# Altium schematic symbol library MU-RK3576J-MB.SCHLIB: 262 symbols (part 2 of 4)
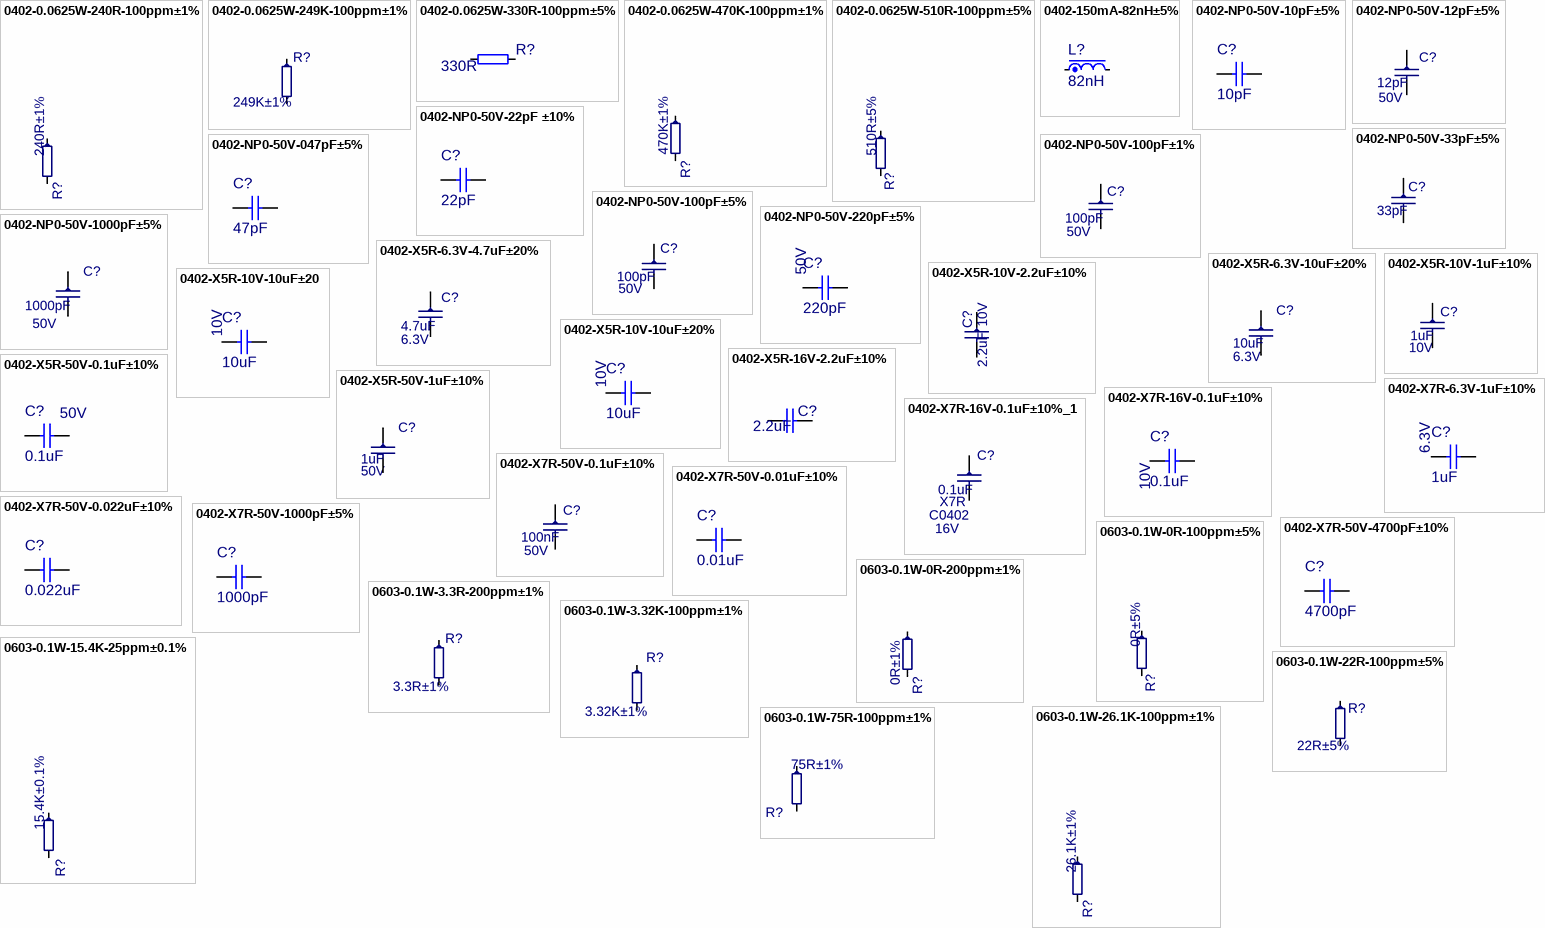
[diagram p14: symbols 0402-0.0625W-240R-100ppm±1% to 0603-0.1W-75R-100ppm±1%]

## 0402-NP0-50V-22pF ±10%
designator C?, comment 22pF
Part Number: 0402-NP0-50V-22pF ±10%; Manufacturer: Samsung; NameFromManufacturer: CL05C220JB51PNC; Place: S; Voltage: 50V; Tolerance: 10%; Check: False; Value: 22pF; Temperature: -55°C~125°C; ComponentLink2Description: Link to datasheet; ComponentLink1Description: DATASHEET; ComponentLink2URL: https://ru.mouser.com/datasheet/2/585/MLCC-1837944.pdf; ComponentLink1URL: Datasheets/capacitors/CL05C220JB51PNC_Spec.pdf; Last changed: 27.10.2022
footprint C0402 (Chip Capacitor, Body 1.0x0.5mm, IPC High Density)
footprint C0603 (Chip Capacitor, Body 1.6x0.8mm, IPC High Density)
footprint C0805 (Chip Capacitor, Body 2.0x1.3mm, IPC High Density)
footprint C1206 (Chip Capacitor, Body 3.2x1.6mm, IPC High Density)
footprint C1210 (Chip Capacitor, Body 3.2x2.5mm, IPC High Density)
footprint C1812 (Chip Capacitor, Body 4.5x3.2mm, IPC High Density)
pins: 1, 2
1 alternate drawing of the same symbol

## 0402-NP0-50V-33pF±5%
designator C?, comment 33pF
Part Number: 0402-NP0-50V-33pF±5%; Manufacturer: Yageo; NameFromManufacturer: CC0402FRNPO9BN330; Dielectric: NP0; Voltage: 50V; Place: *); Tolerance: 5%; Check: False; Case: C0402; Value: 33pF; Temperature: -55°C~125°C; ComponentLink2Description: Link to datasheet; ComponentLink1Description: DATASHEET; ComponentLink2URL: https://www.terraelectronica.ru/pdf/show?pdf_file=http%253A%252F%252Fwww.farnell.com%252Fdatasheets%252F2710587.pdf; ComponentLink1URL: Datasheets/capacitors/DOC012633270.pdf; Last changed: 27.10.2022
footprint C0402
pins: 1, 2
1 alternate drawing of the same symbol

## 0402-NP0-50V-047pF±5%
designator C?, comment 47pF
Part Number: 0402-NP0-50V-047pF±5%; Manufacturer: Yageo; NameFromManufacturer: CC0402JRNPO9BN470; Place: S; Voltage: 50V; Tolerance: 5%; Check: False; Value: 47pF; Temperature: -55°C~125°C; ComponentLink1Description: DATASHEET; ComponentLink1URL: https://www.terraelectronica.ru/product/567824; Datasheet: #https://www.yageo.com/upload/media/product/productsearch/datasheet/mlcc/UPY-GP_NP0_16V-to-50V_18.pdf#; Last changed: 30.08.2022
footprint C0402 (Chip Capacitor, Body 1.0x0.5mm, IPC High Density)
footprint C0603 (Chip Capacitor, Body 1.6x0.8mm, IPC High Density)
footprint C0805 (Chip Capacitor, Body 2.0x1.3mm, IPC High Density)
footprint C1206 (Chip Capacitor, Body 3.2x1.6mm, IPC High Density)
footprint C1210 (Chip Capacitor, Body 3.2x2.5mm, IPC High Density)
footprint C1812 (Chip Capacitor, Body 4.5x3.2mm, IPC High Density)
pins: 1, 2
1 alternate drawing of the same symbol

## 0402-NP0-50V-100pF±1%
designator C?, comment 100pF  Voltage: 50V
Part Number: 0402-NP0-50V-100pF±1%; Manufacturer: Yageo; NameFromManufacturer: CC0402FRNPO9BN101; Dielectric: NP0; Place: *); Tolerance: 1%; Check: False; Case: C0402; Value: 100pF; Temperature: -55°C~125°C; ComponentLink2Description: Link to datasheet; ComponentLink1Description: DATASHEET; ComponentLink2URL: https://www.yageo.com/upload/media/product/productsearch/datasheet/mlcc/UPY-GP_NP0_16V-to-50V_18.pdf; ComponentLink1URL: Datasheets/capacitors/UPY-GP_NP0_16V-to-50V_18.pdf; Last changed: 27.10.2022
footprint C0402
pins: 1, 2
1 alternate drawing of the same symbol

## 0402-NP0-50V-100pF±5%
designator C?, comment 100pF  Voltage: 50V
*; Part Number: 0402-NP0-50V-100pF±5%; Manufacturer: Yageo; NameFromManufacturer: CC0402JRNPO9BN101; Dielectric: NP0; Place: *); Tolerance: 5%; Check: False; Case: C0402; Value: 100pF; Temperature: -55°C~125°C; ComponentLink2Description: Link to datasheet; ComponentLink1Description: DATASHEET; ComponentLink2URL: https://www.terraelectronica.ru/product/367375; ComponentLink1URL: Datasheets/capacitors/UPY-GP_NP0_16V-to-50V_18.pdf; Last changed: 27.10.2022
footprint C0402
pins: 1, 2
1 alternate drawing of the same symbol

## 0402-NP0-50V-220pF±5%
designator C?, comment 220pF  Voltage: 50V
*; Part Number: 0402-NP0-50V-220pF±5%; Manufacturer: Yageo; NameFromManufacturer: CC0402JRNPO9BN221; Place: S; Tolerance: 5%; Check: False; Value: 220pF; Temperature: -55°C~125°C; ComponentLink2Description: Link to datasheet; ComponentLink1Description: DATASHEET; ComponentLink2URL: https://octopart.com/cc0402jrnpo9bn221-yageo-42335946?r=sp#Specs; ComponentLink1URL: Datasheets/capacitors/MV.pdf; Last changed: 27.10.2022
footprint C0402 (Chip Capacitor, Body 1.0x0.5mm, IPC High Density)
footprint C0603 (Chip Capacitor, Body 1.6x0.8mm, IPC High Density)
footprint C0805 (Chip Capacitor, Body 2.0x1.3mm, IPC High Density)
footprint C1206 (Chip Capacitor, Body 3.2x1.6mm, IPC High Density)
footprint C1210 (Chip Capacitor, Body 3.2x2.5mm, IPC High Density)
footprint C1812 (Chip Capacitor, Body 4.5x3.2mm, IPC High Density)
pins: 1, 2
1 alternate drawing of the same symbol

## 0402-NP0-50V-1000pF±5%
designator C?, comment 1000pF  Voltage: 50V
Part Number: 0402-NP0-50V-1000pF±5%; Manufacturer: Yageo; NameFromManufacturer: CC0402JRNPO9BN102; Dielectric: NP0; Place: *); Tolerance: 5%; Check: False; Case: C0402; Value: 1000pF; Temperature: -55°C~125°C; ComponentLink2Description: Link to datasheet; ComponentLink1Description: DATASHEET; ComponentLink2URL: https://www.terraelectronica.ru/product/2101763; ComponentLink1URL: Datasheets/capacitors/UPY-GP_NP0_16V-to-50V_18.pdf; Last changed: 27.10.2022
footprint C0402
pins: 1, 2
1 alternate drawing of the same symbol

## 0402-X5R-6.3V-4.7uF±20%
designator C?, comment 4.7uF  Voltage: 6.3V
Ceramic Capacitor 0402 4.7uF ±20% 6.3V X5R; Part Number: 0402-X5R-6.3V-4.7uF±20%; Manufacturer: Yageo; NameFromManufacturer: CC0402MRX5R5BB475; Place: *); Check: False; Dielectric: X5R; Case: C0402; Value: 4.7uF; Tolerance: 20%; Temperature: -55°C~125°C; ComponentLink2Description: Link to datasheet; ComponentLink1Description: DATASHEET; ComponentLink2URL: https://ru.mouser.com/ProductDetail/YAGEO/CC0402MRX5R5BB475?qs=%2Fha2pyFadujQAk9rG2cgJpeZ0BKEEZe0MyMZqMwsns5cG502XdwDVw%3D%3D; ComponentLink1URL: Datasheets/capacitors/UPY-GPHC_X5R_4V-to-50V_27.pdf; Last changed: 27.10.2022
footprint C0402
pins: 1, 2
1 alternate drawing of the same symbol

## 0402-X5R-6.3V-10uF±20%
designator C?, comment 10uF  Voltage: 6.3V
Part Number: 0402-X5R-6.3V-10uF±20%; Manufacturer: Yageo; NameFromManufacturer: CC0402MRX5R5BB106; Dielectric: X5R; Place: *); Tolerance: 20%; Check: False; Case: C0402; Value: 10uF; Temperature: -55°C~125°C; ComponentLink2Description: Link to datasheet; ComponentLink1Description: DATASHEET; ComponentLink2URL: https://ru.mouser.com/ProductDetail/YAGEO/CC0402MRX5R5BB106?qs=%2Fha2pyFadujQAk9rG2cgJj8l7IbODD3KVaDjvxAcKzu9LtlLnRlq6Q%3D%3D; ComponentLink1URL: Datasheets/capacitors/UPY-GPHC_X5R_4V-to-50V_27.pdf; Last changed: 27.10.2022
footprint C0402
pins: 1, 2
1 alternate drawing of the same symbol

## 0402-X5R-10V-1uF±10%
designator C?, comment 1uF  Voltage: 10V
Part Number: 0402-X5R-10V-1uF±10%; Manufacturer: Samsung; NameFromManufacturer: CL05A105KP5NNNC; Dielectric: X5R; Place: *); Tolerance: 10%; Check: False; Case: C0402; Value: 1uF; Temperature: -55°C~85°C; ComponentLink2Description: Link to datasheet; ComponentLink1Description: DATASHEET; ComponentLink2URL: https://datasheet.ciiva.com/15195/getdatasheetpartid-358390-15195630.pdf?src-supplier=Verical; ComponentLink1URL: Datasheets/capacitors/getdatasheetpartid-358390-15195630.pdf; Last changed: 27.10.2022
footprint C0402
pins: 1, 2
1 alternate drawing of the same symbol

## 0402-X5R-10V-2.2uF±10%
designator C?, comment 2.2uF  Voltage: 10V
*; Part Number: 0402-X5R-10V-2.2uF±10%; Manufacturer: Yageo; NameFromManufacturer: CC0402KRX5R6BB225; Dielectric: X5R; Place: *); Tolerance: 10%; Check: False; Case: C0402; Value: 2.2uF; Temperature: -55°C~85°C; ComponentLink2Description: Link to datasheet; ComponentLink1Description: DATASHEET; ComponentLink2URL: https://ru.mouser.com/ProductDetail/YAGEO/CC0402KRX5R6BB225?qs=%2Fha2pyFadujgDGyIaqGI8bfvbfiNNcC7p03y2QorR%252BZcRhliH8dUqw%3D%3D; ComponentLink1URL: Datasheets/capacitors/UPY-GPHC_X5R_4V-to-50V_27.pdf; Last changed: 27.10.2022
footprint C0402
pins: 1, 2
1 alternate drawing of the same symbol

## 0402-X5R-10V-10uF±20
designator C?, comment 10uF  Voltage: 10V
*; Part Number: 0402-X5R-10V-10uF±20; Manufacturer: Samsung; NameFromManufacturer: CL05A106MP5NUNC; Place: S; Tolerance: 20%; Check: False; Value: 10uF; Temperature: -55°C~85°C; ComponentLink2Description: Link to datasheet; ComponentLink1Description: DATASHEET; Last changed: 06.04.2023
footprint C0402 (Chip Capacitor, Body 1.0x0.5mm, IPC High Density)
footprint C0603 (Chip Capacitor, Body 1.6x0.8mm, IPC High Density)
footprint C0805 (Chip Capacitor, Body 2.0x1.3mm, IPC High Density)
footprint C1206 (Chip Capacitor, Body 3.2x1.6mm, IPC High Density)
footprint C1210 (Chip Capacitor, Body 3.2x2.5mm, IPC High Density)
footprint C1812 (Chip Capacitor, Body 4.5x3.2mm, IPC High Density)
pins: 1, 2
1 alternate drawing of the same symbol

## 0402-X5R-10V-10uF±20%
designator C?, comment 10uF  Voltage: 10V
*; Part Number: 0402-X5R-10V-10uF±20%; Manufacturer: Murata Electronics; NameFromManufacturer: GRM155R61A106ME44; Place: S; Tolerance: 20%; Check: False; Value: 10uF; Temperature: -55°C~85°C; ComponentLink2Description: Link to datasheet; ComponentLink1Description: DATASHEET; ComponentLink2URL: https://octopart.com/grm155r61a106me44d-murata-99357754?r=sp; ComponentLink1URL: Datasheets/capacitors/GRM155R61A106ME44D.pdf; Last changed: 27.10.2022
footprint C0402 (Chip Capacitor, Body 1.0x0.5mm, IPC High Density)
footprint C0603 (Chip Capacitor, Body 1.6x0.8mm, IPC High Density)
footprint C0805 (Chip Capacitor, Body 2.0x1.3mm, IPC High Density)
footprint C1206 (Chip Capacitor, Body 3.2x1.6mm, IPC High Density)
footprint C1210 (Chip Capacitor, Body 3.2x2.5mm, IPC High Density)
footprint C1812 (Chip Capacitor, Body 4.5x3.2mm, IPC High Density)
pins: 1, 2
1 alternate drawing of the same symbol

## 0402-X5R-16V-2.2uF±10%
designator C?, comment 2.2uF
*; Part Number: 0402-X5R-16V-2.2uF±10%; Manufacturer: Yageo; NameFromManufacturer: CC0402KRX5R7BB225; Place: S; Voltage: 16V; Tolerance: 10%; Check: False; Value: 2.2uF; Temperature: -55°C~85°C; ComponentLink1Description: DATASHEET; ComponentLink1URL: https://www.terraelectronica.ru/product/2082992; Datasheet: #https://www.yageo.com/upload/media/product/productsearch/datasheet/mlcc/UPY-GPHC_X5R_4V-to-50V_27.pdf#; Last changed: 23.08.2022
footprint C0402 (Chip Capacitor, Body 1.0x0.5mm, IPC High Density)
footprint C0603 (Chip Capacitor, Body 1.6x0.8mm, IPC High Density)
footprint C0805 (Chip Capacitor, Body 2.0x1.3mm, IPC High Density)
footprint C1206 (Chip Capacitor, Body 3.2x1.6mm, IPC High Density)
footprint C1210 (Chip Capacitor, Body 3.2x2.5mm, IPC High Density)
footprint C1812 (Chip Capacitor, Body 4.5x3.2mm, IPC High Density)
pins: 1, 2
1 alternate drawing of the same symbol

## 0402-X5R-50V-0.1uF±10%
designator C?, comment 0.1uF  Voltage: 50V
Part Number: 0402-X5R-50V-0.1uF±10%; Manufacturer: Yageo; NameFromManufacturer: CC0402KRX5R9BB104; Place: S; Tolerance: 10%; Check: False; Value: 0.1uF; Temperature: -55°C~85°C; ComponentLink2Description: Link to datasheet; ComponentLink1Description: DATASHEET; ComponentLink2URL: https://www.yageo.com/upload/media/product/productsearch/datasheet/mlcc/UPY-GPHC_X5R_4V-to-50V_26.pdf; ComponentLink1URL: Datasheets/capacitors/UPY-GPHC_X5R_4V-to-50V_26.pdf; Last changed: 27.10.2022
footprint C0402 (Chip Capacitor, Body 1.0x0.5mm, IPC High Density)
footprint C0603 (Chip Capacitor, Body 1.6x0.8mm, IPC High Density)
footprint C0805 (Chip Capacitor, Body 2.0x1.3mm, IPC High Density)
footprint C1206 (Chip Capacitor, Body 3.2x1.6mm, IPC High Density)
footprint C1210 (Chip Capacitor, Body 3.2x2.5mm, IPC High Density)
footprint C1812 (Chip Capacitor, Body 4.5x3.2mm, IPC High Density)
pins: 1, 2
1 alternate drawing of the same symbol

## 0402-X5R-50V-1uF±10%
designator C?, comment 1uF  Voltage: 50V
Ceramic Capacitor 0402 1uF ±10% 50V X5R; Part Number: 0402-X5R-50V-1uF±10%; Manufacturer: Yageo; NameFromManufacturer: CC0402KRX5R9BB105; Place: *); Check: False; Dielectric: X5R; Case: C0402; Value: 1uF; Tolerance: 10%; Temperature: -55°C~85°C; ComponentLink2Description: Link to datasheet; ComponentLink1Description: DATASHEET; ComponentLink2URL: https://www.lcsc.com/product-detail/Multilayer-Ceramic-Capacitors-MLCC-SMD-SMT_YAGEO-CC0402KRX5R9BB105_C7500380.html; Last changed: 09.04.2025
footprint C0402
pins: 1, 2
1 alternate drawing of the same symbol

## 0402-X7R-6.3V-1uF±10%
designator C?, comment 1uF  Voltage: 6.3V
Part Number: 0402-X7R-6.3V-1uF±10%; Manufacturer: Yageo; NameFromManufacturer: CC0402KRX7R5BB105; Place: S; Tolerance: 10%; Check: False; Value: 1uF; Temperature: -55°C~125°C; ComponentLink2Description: Link to datasheet; ComponentLink1Description: DATASHEET; ComponentLink2URL: https://www.terraelectronica.ru/product/1352679; ComponentLink1URL: Datasheets/capacitors/UPY-GPHC_X7R_6.3V-to-50V_20.pdf; Last changed: 27.10.2022
footprint C0402 (Chip Capacitor, Body 1.0x0.5mm, IPC High Density)
footprint C0603 (Chip Capacitor, Body 1.6x0.8mm, IPC High Density)
footprint C0805 (Chip Capacitor, Body 2.0x1.3mm, IPC High Density)
footprint C1206 (Chip Capacitor, Body 3.2x1.6mm, IPC High Density)
footprint C1210 (Chip Capacitor, Body 3.2x2.5mm, IPC High Density)
footprint C1812 (Chip Capacitor, Body 4.5x3.2mm, IPC High Density)
pins: 1, 2
1 alternate drawing of the same symbol

## 0402-X7R-16V-0.1uF±10%
designator C?, comment 0.1uF  Voltage: 10V
Part Number: 0402-X5R-10V-0.1uF±10%; Manufacturer: Yageo; NameFromManufacturer: CC0402KRX5R6BB104; Place: S; Tolerance: 10%; Check: False; Value: 0.1uF; Temperature: -55°C~125°C; ComponentLink2Description: Link to datasheet; ComponentLink1Description: DATASHEET; Last changed: 27.10.2022
footprint C0402 (Chip Capacitor, Body 1.0x0.5mm, IPC High Density)
footprint C0603 (Chip Capacitor, Body 1.6x0.8mm, IPC High Density)
footprint C0805 (Chip Capacitor, Body 2.0x1.3mm, IPC High Density)
footprint C1206 (Chip Capacitor, Body 3.2x1.6mm, IPC High Density)
footprint C1210 (Chip Capacitor, Body 3.2x2.5mm, IPC High Density)
footprint C1812 (Chip Capacitor, Body 4.5x3.2mm, IPC High Density)
pins: 1, 2
1 alternate drawing of the same symbol

## 0402-X7R-16V-0.1uF±10%_1
designator C?, comment 0.1uF  Dielectric: X7R  Voltage: 16V  Case: C0402
Ceramic Capacitor 0402 100nF ±5% 16V X7R; Part Number: 0402-X7R-16V-0.1uF±10%; Manufacturer: Yageo; NameFromManufacturer: CC0402JRX7R7BB104; Place: *); Tolerance: 10%; Check: False; Value: 0.1uF; Temperature: -55°C~125°C; ComponentLink2Description: Link to datasheet; ComponentLink1Description: DATASHEET; ComponentLink2URL: https://www.yageo.com/upload/media/product/productsearch/datasheet/mlcc/UPY-GPHC_X7R_6.3V-to-50V_18.pdf; ComponentLink1URL: Datasheets/capacitors/UPY-GPHC_X7R_6.3V-to-50V_18.pdf; Last changed: 10/27/2022
footprint C0402
pins: 1, 2
1 alternate drawing of the same symbol

## 0402-X7R-50V-0.1uF±10%
designator C?, comment 100nF  Voltage: 50V
Ceramic Capacitor 0402 100nF ±10% 50V X7R; Part Number: 0402-X7R-50V-0.1uF±10%; Manufacturer: Yageo; NameFromManufacturer: CC0402KRX7R9BB104; Place: *); Check: False; Dielectric: X7R; Case: C0402; Value: 100nF; Tolerance: 10%; Temperature: -55°C~125°C; ComponentLink2Description: Link to datasheet; ComponentLink1Description: DATASHEET; ComponentLink2URL: https://www.lcsc.com/product-detail/Multilayer-Ceramic-Capacitors-MLCC-SMD-SMT_YAGEO-CC0402KRX7R9BB104_C131394.html; Last changed: 09.04.2025
footprint C0402
pins: 1, 2
1 alternate drawing of the same symbol

## 0402-X7R-50V-0.01uF±10%
designator C?, comment 0.01uF
Part Number: 0402-X7R-50V-0.01uF±10%; Manufacturer: Yageo; NameFromManufacturer: CC0402KRX7R9BB103; Place: S; Voltage: 50V; Tolerance: 10%; Check: False; Annotation: *; Param: *; Value: 0.01uF; Temperature: -55°C~125°C; ComponentLink1Description: DATASHEET; ComponentLink1URL: https://www.terraelectronica.ru/pdf/show?pdf_file=%252Fds%252Fpdf%252FX%252FX7R_16V-to-100V.pdf; Datasheet: #https://www.terraelectronica.ru/pdf/show?pdf_file=%252Fds%252Fpdf%252FX%252FX7R_16V-to-100V.pdf#; Last changed: 17.05.2021
footprint C0201 (Chip Capacitor, 2-Leads, Body 0,60x0,30mm, IPC Low Density)
footprint C0402 (Chip Capacitor, Body 1.0x0.5mm, IPC High Density)
footprint C0603 (Chip Capacitor, Body 1.6x0.8mm, IPC High Density)
footprint C0805 (Chip Capacitor, Body 2.0x1.3mm, IPC High Density)
footprint C1206 (Chip Capacitor, Body 3.2x1.6mm, IPC High Density)
footprint C1210 (Chip Capacitor, Body 3.2x2.5mm, IPC High Density)
footprint C1812 (Chip Capacitor, Body 4.5x3.2mm, IPC High Density)
pins: 1, 2
1 alternate drawing of the same symbol

## 0402-X7R-50V-0.022uF±10%
designator C?, comment 0.022uF
Part Number: 0402-X7R-50V-0.022uF±10%; Manufacturer: Murata Electronics; NameFromManufacturer: GRM155R71H223KA12D; Place: S; Voltage: 50V; Tolerance: 10%; Check: False; Value: 0.022uF; Temperature: -55°C~125°C; ComponentLink2Description: Link to datasheet; ComponentLink1Description: DATASHEET; ComponentLink2URL: https://www.terraelectronica.ru/product/866781; ComponentLink1URL: Datasheets/capacitors/GRM155R71H223KA12#.pdf; Last changed: 27.10.2022
footprint C0402 (Chip Capacitor, Body 1.0x0.5mm, IPC High Density)
footprint C0603 (Chip Capacitor, Body 1.6x0.8mm, IPC High Density)
footprint C0805 (Chip Capacitor, Body 2.0x1.3mm, IPC High Density)
footprint C1206 (Chip Capacitor, Body 3.2x1.6mm, IPC High Density)
footprint C1210 (Chip Capacitor, Body 3.2x2.5mm, IPC High Density)
footprint C1812 (Chip Capacitor, Body 4.5x3.2mm, IPC High Density)
pins: 1, 2
1 alternate drawing of the same symbol

## 0402-X7R-50V-1000pF±5%
designator C?, comment 1000pF
Part Number: 0402-X7R-50V-1000pF±5%; Manufacturer: Yageo; NameFromManufacturer: CC0402JRX7R9BB102; Place: S; Voltage: 50V; Tolerance: 5%; Check: False; Value: 1000pF; Temperature: -55°C~125°C; ComponentLink1Description: DATASHEET; ComponentLink1URL: https://ru.mouser.com/ProductDetail/YAGEO/CC0402JRX7R9BB102?qs=%2Fha2pyFadugad28DmURO4b2qvKgXCEL3EHEIBaCV%252BxrO6dOD1PZ5Bw%3D%3D; Datasheet: #https://www.yageo.com/upload/media/product/productsearch/datasheet/mlcc/UPY-GPHC_X7R_6.3V-to-50V_20.pdf#; Last changed: 07.10.2021
footprint C0402 (Chip Capacitor, Body 1.0x0.5mm, IPC High Density)
footprint C0603 (Chip Capacitor, Body 1.6x0.8mm, IPC High Density)
footprint C0805 (Chip Capacitor, Body 2.0x1.3mm, IPC High Density)
footprint C1206 (Chip Capacitor, Body 3.2x1.6mm, IPC High Density)
footprint C1210 (Chip Capacitor, Body 3.2x2.5mm, IPC High Density)
footprint C1812 (Chip Capacitor, Body 4.5x3.2mm, IPC High Density)
pins: 1, 2
1 alternate drawing of the same symbol

## 0402-X7R-50V-4700pF±10%
designator C?, comment 4700pF
*; Part Number: 0402-X7R-50V-4700pF±10%; Manufacturer: Yageo; NameFromManufacturer: CC0402KRX7R9BB472; Place: S; Voltage: 50V; Tolerance: 10%; Check: False; Value: 4700pF; Temperature: -55°C~125°C; ComponentLink2Description: Link to datasheet; ComponentLink1Description: DATASHEET; ComponentLink2URL: https://octopart.com/cc0402krx7r9bb472-yageo-9288149?r=sp; ComponentLink1URL: Datasheets/capacitors/UPY-GPHC_X7R_6.3V-to-50V_20.pdf; Last changed: 27.10.2022
footprint C0402 (Chip Capacitor, Body 1.0x0.5mm, IPC High Density)
footprint C0603 (Chip Capacitor, Body 1.6x0.8mm, IPC High Density)
footprint C0805 (Chip Capacitor, Body 2.0x1.3mm, IPC High Density)
footprint C1206 (Chip Capacitor, Body 3.2x1.6mm, IPC High Density)
footprint C1210 (Chip Capacitor, Body 3.2x2.5mm, IPC High Density)
footprint C1812 (Chip Capacitor, Body 4.5x3.2mm, IPC High Density)
pins: 1, 2
1 alternate drawing of the same symbol

## 0603-0.1W-0R-100ppm±5%
designator R?, comment 0R±5%
Chip Resistor 0603 0Ω ±5% 50V ±100ppm/℃ Thick Film; Part Number: 0603-0.1W-0R-100ppm±5%; NameFromManufacturer: RC0603JR-070RL; Manufacturer: Yageo; Place: *); Value: 0R; Check: False; Case: R0603; Tolerance: 5%; Temperature: -55°C~155°C; ComponentLink1Description: DATASHEET; ComponentLink1URL: https://www.chipdip.ru/product/0.1w-0603-0-om-5; Datasheet: Datasheets/resistors/PYu-RC_Group_51_RoHS_L_11.pdf; Last changed: 27.10.2022
simulation model Resistor (Model Description)
footprint R0603
pins: 1, 2

## 0603-0.1W-0R-200ppm±1%
designator R?, comment 0R±1%
Part Number: 0603-0.1W-0R-200ppm±1%; NameFromManufacturer: RC0603FR-070RL; Manufacturer: Yageo; Place: *); Value: 0R; Tolerance: 1%; Check: False; Case: R0603; Temperature: -55°C~155°C; ComponentLink1Description: DATASHEET; ComponentLink1URL: https://www.yageo.com/upload/media/product/productsearch/datasheet/rchip/PYu-RC_Group_51_RoHS_L_11.pdf; Datasheet: Datasheets/resistors/PYu-RC_Group_51_RoHS_L_11.pdf; Last changed: 27.10.2022
simulation model Resistor (Model Description)
footprint R0603
pins: 1, 2

## 0603-0.1W-3.3R-200ppm±1%
designator R?, comment 3.3R±1%
*; Part Number: 0603-0.1W-3.3R-200ppm±1%; NameFromManufacturer: RC0603FR-073R3L; Manufacturer: Yageo; Place: *); Value: 3.3R; Tolerance: 1%; Check: False; Case: R0603; Temperature: -55°C~155°C; ComponentLink1Description: DATASHEET; ComponentLink1URL: https://www.terraelectronica.ru/product/871121; Datasheet: Datasheets/resistors/PYu-RC_Group_51_RoHS_L_12.pdf; Last changed: 27.10.2022
simulation model Resistor (Model Description)
footprint R0603
pins: 1, 2

## 0603-0.1W-3.32K-100ppm±1%
designator R?, comment 3.32K±1%
Part Number: 0603-0.1W-3.32K-100ppm±1%; NameFromManufacturer: CR-03FL7---3K3; Manufacturer: Viking Tech Corp.(VIKING); Place: *); Value: 3.32K; Tolerance: 1%; Check: False; Case: R0603; Temperature: -55°C~155°C; ComponentLink1Description: DATASHEET; ComponentLink1URL: https://www.terraelectronica.ru/product/2782044; Datasheet: Datasheets/resistors/CR_SERIES.pdf; Last changed: 27.10.2022
simulation model Resistor (Model Description)
footprint R0603
pins: 1, 2

## 0603-0.1W-15.4K-25ppm±0.1%
designator R?, comment 15.4K±0.1%
*; Part Number: 0603-0.1W-15.4K-25ppm±0.1%; NameFromManufacturer: RT0603BRD0715K4L; Manufacturer: Yageo; Place: *); Value: 15.4K; Tolerance: 0.1%; Check: False; Case: R0603; Temperature: -55°C~155°C; ComponentLink1Description: DATASHEET; ComponentLink1URL: https://eu.mouser.com/ProductDetail/YAGEO/RT0603BRD0715K4L?qs=gY0y7AQI9SPftUs%252Borrx5g%3D%3D; Datasheet: Datasheets\resistors\RT0603BRD0715K4L-datasheet-pdf-ru.findic.com.pdf#Datasheets\resistors\RT0603BRD0715K4L-datasheet-pdf-ru.findic.com.pdf#; Last changed: 08.11.2022
simulation model Resistor (Model Description)
footprint R0603
pins: 1, 2

## 0603-0.1W-22R-100ppm±5%
designator R?, comment 22R±5%
Part Number: 0603-0.1W-22R-100ppm±5%; NameFromManufacturer: RC0603JR-0722RL; Manufacturer: Yageo; Place: *); Value: 22R; Tolerance: 5%; Check: False; Case: R0603; Temperature: -55°C~155°C; ComponentLink1Description: DATASHEET; ComponentLink1URL: https://www.terraelectronica.ru/product/328449; Datasheet: Datasheets/resistors/PYu-RC_Group_51_RoHS_L_12.pdf; Last changed: 27.10.2022
simulation model Resistor (Model Description)
footprint R0603
pins: 1, 2

## 0603-0.1W-26.1K-100ppm±1%
designator R?, comment 26.1K±1%
Part Number: 0603-0.1W-26.1K-100ppm±1%; NameFromManufacturer: NRC06F2612TRF; Manufacturer: NIC Components Corp.; Place: *); Value: 26.1K; Tolerance: 1%; Check: False; Case: R0603; Temperature: -55°C~155°C; ComponentLink1Description: DATASHEET; ComponentLink1URL: https://www.xonelec.com/mpn/nic/nrc06f2612trf; Datasheet: Datasheets/resistors/NRC06F2612TRF-datasheet-pdf-ru.findic.com.pdf#Datasheets\resistors\NRC06F2612TRF-datasheet-pdf-ru.findic.com.pdf#; Last changed: 07.11.2022
simulation model Resistor (Model Description)
footprint R0603
pins: 1, 2

## 0603-0.1W-75R-100ppm±1%
designator R?, comment 75R±1%
*; Part Number: 0603-0.1W-75R-100ppm±1%; NameFromManufacturer: RC0603FR-0775RL; Manufacturer: Yageo; Place: *); Value: 75R; Tolerance: 1%; Check: False; Case: R0603; Temperature: -55°C~155°C; ComponentLink1Description: DATASHEET; ComponentLink1URL: https://octopart.com/rc0603fr-0775rl-yageo-1432518?r=sp; Datasheet: Datasheets/resistors/RC0603.pdf; Last changed: 27.10.2022
simulation model Resistor (Model Description)
footprint R0603
pins: 1, 2

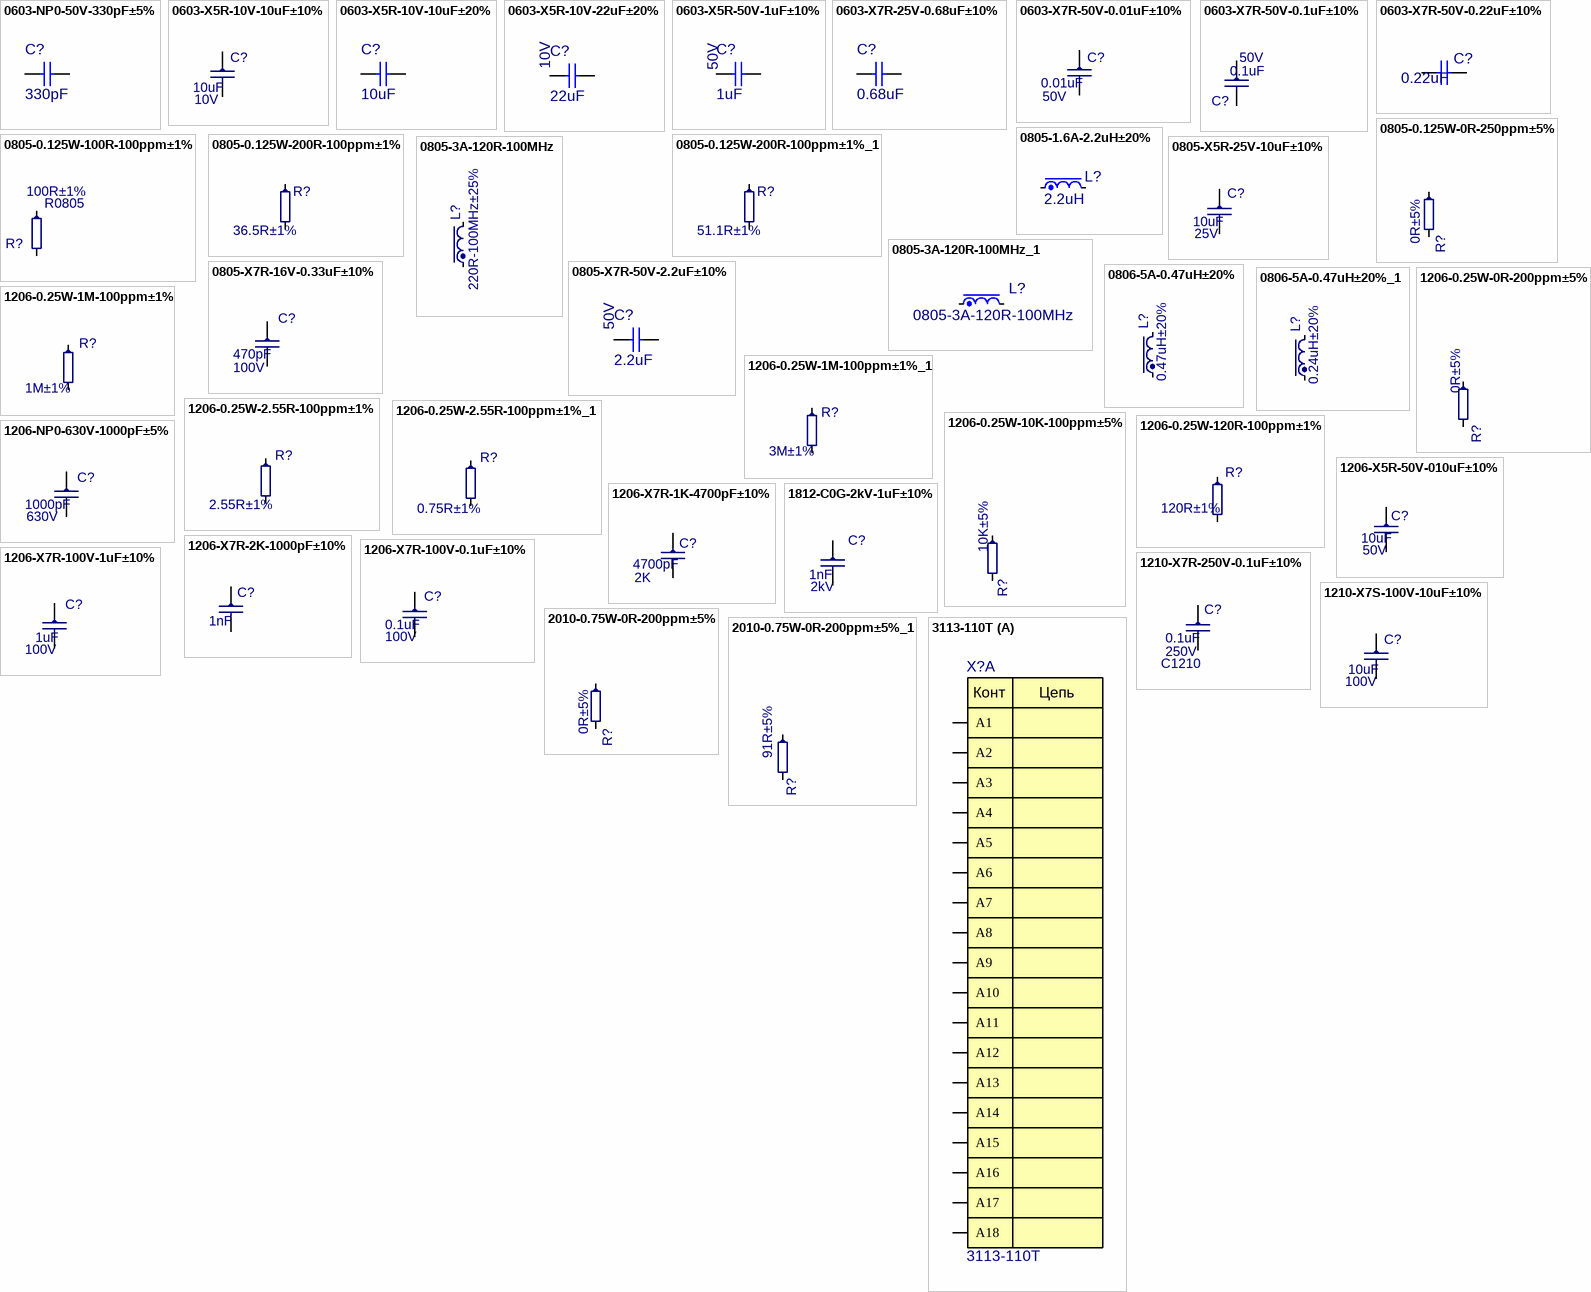
[diagram p3: symbols 0603-NP0-50V-330pF±5% to 3113-110T]

## 0603-NP0-50V-330pF±5%
designator C?, comment 330pF
*; Part Number: 0603-NP0-50V-330pF±5%; Manufacturer: Yageo; NameFromManufacturer: CC0603JRNPO9BN331; Place: S; Voltage: 50V; Tolerance: 5%; Check: False; Value: 330pF; Temperature: -55°C~125°C; ComponentLink1Description: DATASHEET; ComponentLink1URL: https://www.terraelectronica.ru/product/709596; Datasheet: #https://www.yageo.com/upload/media/product/productsearch/datasheet/mlcc/UPY-GP_NP0_16V-to-50V_18.pdf#; Last changed: 23.08.2022
footprint C0402 (Chip Capacitor, Body 1.0x0.5mm, IPC High Density)
footprint C0603 (Chip Capacitor, Body 1.6x0.8mm, IPC High Density)
footprint C0805 (Chip Capacitor, Body 2.0x1.3mm, IPC High Density)
footprint C1206 (Chip Capacitor, Body 3.2x1.6mm, IPC High Density)
footprint C1210 (Chip Capacitor, Body 3.2x2.5mm, IPC High Density)
footprint C1812 (Chip Capacitor, Body 4.5x3.2mm, IPC High Density)
pins: 1, 2
1 alternate drawing of the same symbol

## 0603-X5R-10V-10uF±10%
designator C?, comment 10uF  Voltage: 10V
*; Part Number: 0603-X5R-10V-10uF±10%; Manufacturer: Yageo; NameFromManufacturer: CC0603KRX5R6BB106; Dielectric: X5R; Place: *); Tolerance: 10%; Check: False; Case: C0603; Value: 10uF; Temperature: -55°C~85°C; ComponentLink2Description: Link to datasheet; ComponentLink1Description: DATASHEET; ComponentLink2URL: https://www.yageo.com/upload/media/product/productsearch/datasheet/mlcc/UPY-GPHC_X5R_4V-to-50V_26.pdf; ComponentLink1URL: Datasheets/capacitors/UPY-GPHC_X5R_4V-to-50V_26.pdf; Last changed: 27.10.2022
footprint C0603
pins: 1, 2
1 alternate drawing of the same symbol

## 0603-X5R-10V-10uF±20%
designator C?, comment 10uF
*; Part Number: 0603-X5R-10V-10uF±20%; Manufacturer: Samsung Electro-Mechanics; NameFromManufacturer: CL10A106MP8NNNC; Place: S; Voltage: 10V; Tolerance: 20%; Check: False; Value: 10uF; Temperature: -55°C~85°C; ComponentLink1Description: DATASHEET; ComponentLink1URL: https://www.terraelectronica.ru/product/863287; Datasheet: #https://www.terraelectronica.ru/pdf/show?pdf_file=http%253A%252F%252Fwww.farnell.com%252Fdatasheets%252F2710660.pdf#; Last changed: 30.08.2022
footprint C0402 (Chip Capacitor, Body 1.0x0.5mm, IPC High Density)
footprint C0603 (Chip Capacitor, Body 1.6x0.8mm, IPC High Density)
footprint C0805 (Chip Capacitor, Body 2.0x1.3mm, IPC High Density)
footprint C1206 (Chip Capacitor, Body 3.2x1.6mm, IPC High Density)
footprint C1210 (Chip Capacitor, Body 3.2x2.5mm, IPC High Density)
footprint C1812 (Chip Capacitor, Body 4.5x3.2mm, IPC High Density)
pins: 1, 2
1 alternate drawing of the same symbol

## 0603-X5R-10V-22uF±20%
designator C?, comment 22uF  Voltage: 10V
*; Part Number: 0603-X5R-10V-22uF±20%; Manufacturer: Murata; NameFromManufacturer: GRM188R61A226ME15D; Place: S; Tolerance: 20%; Value: 22uF; Temperature: -55°C~85°C; ComponentLink2Description: Link to datasheet; ComponentLink1Description: DATASHEET
footprint C0402 (Chip Capacitor, Body 1.0x0.5mm, IPC High Density)
footprint C0603 (Chip Capacitor, Body 1.6x0.8mm, IPC High Density)
footprint C0805 (Chip Capacitor, Body 2.0x1.3mm, IPC High Density)
footprint C1206 (Chip Capacitor, Body 3.2x1.6mm, IPC High Density)
footprint C1210 (Chip Capacitor, Body 3.2x2.5mm, IPC High Density)
footprint C1812 (Chip Capacitor, Body 4.5x3.2mm, IPC High Density)
pins: 1, 2
1 alternate drawing of the same symbol

## 0603-X5R-50V-1uF±10%
designator C?, comment 1uF  Voltage: 50V
*; Part Number: 0603-X5R-50V-1uF±10%; Manufacturer: Yageo; NameFromManufacturer: CC0603KRX5R9BB105; Place: S; Tolerance: 10%; Analog: GRM188R61H105KAALD; Check: False; Value: 1uF; Temperature: -55°C~85°C; ComponentLink2Description: Link to datasheet; ComponentLink1Description: DATASHEET; ComponentLink2URL: https://ru.mouser.com/ProductDetail/YAGEO/CC0603KRX5R9BB105?qs=zEY9bCHj09dqHVk4sHIcjA%3D%3D; ComponentLink1URL: Datasheets/capacitors/UPY-GPHC_X5R_4V-to-50V_26.pdf; Last changed: 27.10.2022
footprint C0402 (Chip Capacitor, Body 1.0x0.5mm, IPC High Density)
footprint C0603 (Chip Capacitor, Body 1.6x0.8mm, IPC High Density)
footprint C0805 (Chip Capacitor, Body 2.0x1.3mm, IPC High Density)
footprint C1206 (Chip Capacitor, Body 3.2x1.6mm, IPC High Density)
footprint C1210 (Chip Capacitor, Body 3.2x2.5mm, IPC High Density)
footprint C1812 (Chip Capacitor, Body 4.5x3.2mm, IPC High Density)
pins: 1, 2
1 alternate drawing of the same symbol

## 0603-X7R-25V-0.68uF±10%
designator C?, comment 0.68uF
Part Number: 0603-X7R-25V-0.68uF±10%; Manufacturer: Yageo; NameFromManufacturer: CC0603KRX7R8BB684; Place: S; Voltage: 25V; Tolerance: 10%; Check: False; Value: 0.68uF; Temperature: -55°C~125°C; ComponentLink1Description: DATASHEET; ComponentLink1URL: https://lcsc.com/product-detail/Multilayer-Ceramic-Capacitors-MLCC-SMD-SMT_YAGEO-CC0603KRX7R8BB684_C2838708.html; Datasheet: #https://www.yageo.com/upload/media/product/productsearch/datasheet/mlcc/UPY-GPHC_X7R_6.3V-to-50V_20.pdf#; Last changed: 22.08.2022
footprint C0402 (Chip Capacitor, Body 1.0x0.5mm, IPC High Density)
footprint C0603 (Chip Capacitor, Body 1.6x0.8mm, IPC High Density)
footprint C0805 (Chip Capacitor, Body 2.0x1.3mm, IPC High Density)
footprint C1206 (Chip Capacitor, Body 3.2x1.6mm, IPC High Density)
footprint C1210 (Chip Capacitor, Body 3.2x2.5mm, IPC High Density)
footprint C1812 (Chip Capacitor, Body 4.5x3.2mm, IPC High Density)
pins: 1, 2
1 alternate drawing of the same symbol

## 0603-X7R-50V-0.01uF±10%
designator C?, comment 0.01uF  Voltage: 50V
Part Number: 0603-X7R-50V-0.01uF±10%; Manufacturer: Yageo; NameFromManufacturer: CC0603KRX7R9BB103; Dielectric: X7R; Place: *); Tolerance: 10%; Check: False; Case: C0603; Value: 0.01uF; Temperature: -55°C~125°C; ComponentLink2Description: Link to datasheet; ComponentLink1Description: DATASHEET; ComponentLink2URL: https://www.yageo.com/upload/media/product/productsearch/datasheet/mlcc/UPY-GPHC_X7R_6.3V-to-50V_18.pdf; ComponentLink1URL: Datasheets/capacitors/UPY-GPHC_X7R_6.3V-to-50V_20.pdf; Last changed: 27.10.2022
footprint C0603
pins: 1, 2
1 alternate drawing of the same symbol

## 0603-X7R-50V-0.1uF±10%
designator C?, comment 0.1uF  Voltage: 50V
Part Number: 0603-X7R-50V-0.1uF±10%; Manufacturer: Yageo; NameFromManufacturer: CC0603KRX7R9BB104; Dielectric: X7R; Place: *); Tolerance: 10%; Check: False; Case: C0603; Value: 0.1uF; Temperature: -55°C~125°C; ComponentLink2Description: Link to datasheet; ComponentLink1Description: DATASHEET; ComponentLink2URL: https://www.yageo.com/upload/media/product/productsearch/datasheet/mlcc/UPY-GPHC_X7R_6.3V-to-50V_18.pdf; ComponentLink1URL: Datasheets/capacitors/UPY-GPHC_X7R_6.3V-to-50V_18.pdf; Last changed: 27.10.2022
footprint C0603
pins: 1, 2
1 alternate drawing of the same symbol

## 0603-X7R-50V-0.22uF±10%
designator C?, comment 0.22uF
Part Number: 0603-X5R-50V-0.22uF±10%; Manufacturer: Samsung; NameFromManufacturer: CL10A224KB8NNNC; Place: S; Voltage: 50V; Tolerance: 10%; Check: False; Value: 0.22uF; Temperature: -55°C~125°C; ComponentLink1Description: DATASHEET; ComponentLink1URL: https://www.terraelectronica.ru/product/1045441; Datasheet: #https://www.yageo.com/upload/media/product/productsearch/datasheet/mlcc/UPY-GPHC_X7R_6.3V-to-50V_20.pdf#; Last changed: 18.01.2022
footprint C0402 (Chip Capacitor, Body 1.0x0.5mm, IPC High Density)
footprint C0603 (Chip Capacitor, Body 1.6x0.8mm, IPC High Density)
footprint C0805 (Chip Capacitor, Body 2.0x1.3mm, IPC High Density)
footprint C1206 (Chip Capacitor, Body 3.2x1.6mm, IPC High Density)
footprint C1210 (Chip Capacitor, Body 3.2x2.5mm, IPC High Density)
footprint C1812 (Chip Capacitor, Body 4.5x3.2mm, IPC High Density)
pins: 1, 2
1 alternate drawing of the same symbol

## 0805-0.125W-0R-250ppm±5%
designator R?, comment 0R±5%
Part Number: 0805-0.125W-0R-250ppm±5%; NameFromManufacturer: RC0805JR-070RL; Manufacturer: Yageo; Place: *); Value: 0R; Tolerance: 5%; Check: False; Case: R0805; Temperature: -55°C~155°C; ComponentLink1Description: DATASHEET; ComponentLink1URL: https://www.terraelectronica.ru/product/327233; Datasheet: Datasheets/resistors/PYu-RC_Group_51_RoHS_L_11.pdf; Last changed: 27.10.2022
simulation model Resistor (Model Description)
footprint R0805
pins: 1, 2

## 0805-0.125W-100R-100ppm±1%
designator R?, comment 100R±1%  Case: R0805
*; Part Number: 0805-0.125W-100R-100ppm±1%; NameFromManufacturer: RC0805FR-07100RL; Manufacturer: Yageo; Place: *); Value: 100R; Tolerance: 1%; Check: False; Temperature: -55°C~125°C; ComponentLink1Description: DATASHEET; ComponentLink1URL: https://eu.mouser.com/ProductDetail/YAGEO/RC0805FR-07100RL?qs=8Y8p%252BasKcI6MtXUgG4E6SQ%3D%3D; Datasheet: Datasheets/resistors/PYu-RC_Group_51_RoHS_L_11.pdf; Last changed: 27.10.2022
simulation model Resistor (Model Description)
footprint R0805
pins: 1, 2

## 0805-0.125W-200R-100ppm±1%
designator R?, comment 36.5R±1%
Chip Resistor 0805 200Ω ±1% 150V ±100ppm/℃ Thick Film; Part Number: 0805-0.125W-36.5R-100ppm±1%; NameFromManufacturer: 0805W8F365JT5E; Manufacturer: UNI-ROYAL; Place: *); Value: 36.5R; Check: False; Case: R0805; Tolerance: 1%; Temperature: -55°C~125°C; ComponentLink1Description: DATASHEET; ComponentLink1URL: https://www.lcsc.com/product-detail/Chip-Resistor-Surface-Mount_YAGEO-RC0805FR-07200RL_C114567.html; Datasheet: #Datasheets\resistors\WR08X3300FTL-datasheet-pdf-ru.findic.com.pdf#; Last changed: 07.11.2022
simulation model Resistor (Model Description)
footprint R0805
pins: 1, 2

## 0805-0.125W-200R-100ppm±1%_1
designator R?, comment 51.1R±1%
Chip Resistor 0805 200Ω ±1% 150V ±100ppm/℃ Thick Film; Part Number: 0805-0.125W-51.1R-100ppm±1%; NameFromManufacturer: RT0805BRD0751R1L; Manufacturer: YAGEO; Place: *); Value: 51.1R; Check: False; Case: R0805; Tolerance: 1%; Temperature: -55°C~125°C; ComponentLink1Description: DATASHEET; ComponentLink1URL: https://www.lcsc.com/product-detail/Chip-Resistor-Surface-Mount_YAGEO-RC0805FR-07200RL_C114567.html; Datasheet: #Datasheets\resistors\WR08X3300FTL-datasheet-pdf-ru.findic.com.pdf#; Last changed: 07.11.2022
simulation model Resistor (Model Description)
footprint R0805
pins: 1, 2

## 0805-1.6A-2.2uH±20%
designator L?, comment 2.2uH
Part Number: 0805-1.6A-2.2uH±20%; Manufacturer: Chilisin; NameFromManufacturer: BDCD002016102R2MS1; Place: S; Tolerance: 20%; Current: 1.3A; DC Resistance: 0.138R; Check: False; Analog: BDCD002016102R2MS1, LQM21PN2R2MCAD; Value: 2.2uH; Temperature: -40°C~125°C; ComponentLink1Description: DATASHEET; ComponentLink1URL: https://lcsc.com/product-detail/Inductors-SMD_Murata-Electronics-DFE201210U-1R5M-P2_C2891571.html; Datasheet: Datasheets/inductors/J(E)TE243A-0029.pdf; Last changed: 27.10.2022
footprint L0805
pins: 1, 2

## 0805-3A-120R-100MHz
designator L?, comment 220R-100MHz±25%
*; Part Number: 0805-3A-220R-100MHz; Manufacturer: TDK; NameFromManufacturer: MPZ2012S221AT000; Current: 3A; Place: *); Tolerance: 25%; DC Resistance: 0.03R; Check: False; Case: L0805; Value: 220R-100MHz; Temperature: -55°C~125°C; ComponentLink1Description: DATASHEET; ComponentLink1URL: https://www.terraelectronica.ru/product/854541; Datasheet: Datasheets/inductors/QNFA9102.pdf; Last changed: 27.10.2022
footprint L0805
pins: 1, 2

## 0805-3A-120R-100MHz_1
designator L?, comment 0805-3A-120R-100MHz
*; Part Number: CBM201209U121T; Manufacturer: FH; Place: S; Tolerance: 25%; Current: 3A; DC Resistance: 0.03R; Check: False; Analog: CBM201209U121T, BLM21PG121SH1D; Value: 0805-3A-120R-100MHz; Temperature: -55°C~125°C; ComponentLink1Description: DATASHEET; NameFromManufacturer: CBM201209U121T; ComponentLink1URL: https://www.terraelectronica.ru/product/854541; Datasheet: Datasheets/inductors/QNFA9102.pdf; Last changed: 27.10.2022
footprint L0805
pins: 1, 2

## 0805-X5R-25V-10uF±10%
designator C?, comment 10uF  Voltage: 25V
Part Number: 0805-X5R-25V-10uF±10%; Manufacturer: Samsung; NameFromManufacturer: CL21A106KAYNNNE; Dielectric: X5R; Place: *); Tolerance: 10%; Check: False; Case: C0805; Value: 10uF; Temperature: -55°C~85°C; ComponentLink2Description: Link to datasheet; ComponentLink1Description: DATASHEET; ComponentLink2URL: https://www.terraelectronica.ru/product/1640984; ComponentLink1URL: Datasheets/capacitors/MLCC-1837944.pdf; Last changed: 27.10.2022
footprint C0805
pins: 1, 2
1 alternate drawing of the same symbol

## 0805-X7R-16V-0.33uF±10%
designator C?, comment 470pF  Voltage: 100V
Part Number: 0805-X7R-100V-470pF±10%; Manufacturer: Yageo; NameFromManufacturer: CC0805JRNPO0BN471; Dielectric: X7R; Place: *); Tolerance: 10%; Check: False; Case: C0805; Value: 470pF; Temperature: -55°C~125°C; ComponentLink2Description: Link to datasheet; ComponentLink1Description: DATASHEET; ComponentLink2URL: https://www.digikey.com/en/products/detail/yageo/CC0805KKX7R7BB334/5195288; ComponentLink1URL: Datasheets/capacitors/UPY-GPHC_X7R_6.3V-to-50V_20.pdf; Last changed: 27.10.2022
footprint C0805
pins: 1, 2
1 alternate drawing of the same symbol

## 0805-X7R-50V-2.2uF±10%
designator C?, comment 2.2uF  Voltage: 50V
Part Number: 0805-X7R-50V-2.2uF±10%; Manufacturer: Yageo; NameFromManufacturer: CC0805KKX7R9BB225; Place: S; Tolerance: 10%; Check: False; Value: 2.2uF; Temperature: -55°C~125°C; ComponentLink2Description: Link to datasheet; ComponentLink1Description: DATASHEET; ComponentLink2URL: https://www.yageo.com/upload/media/product/productsearch/datasheet/mlcc/UPY-GPHC_X7R_6.3V-to-50V_18.pdf; ComponentLink1URL: Datasheets/capacitors/UPY-GPHC_X7R_6.3V-to-50V_18.pdf; Last changed: 27.10.2022
footprint C0402 (Chip Capacitor, Body 1.0x0.5mm, IPC High Density)
footprint C0603 (Chip Capacitor, Body 1.6x0.8mm, IPC High Density)
footprint C0805 (Chip Capacitor, Body 2.0x1.3mm, IPC High Density)
footprint C1206 (Chip Capacitor, Body 3.2x1.6mm, IPC High Density)
footprint C1210 (Chip Capacitor, Body 3.2x2.5mm, IPC High Density)
footprint C1812 (Chip Capacitor, Body 4.5x3.2mm, IPC High Density)
pins: 1, 2
1 alternate drawing of the same symbol

## 0806-5A-0.47uH±20%
designator L?, comment 0.47uH±20%
Part Number: 0806-5A-0.47uH±20%; Manufacturer: INPAQ; NameFromManufacturer: WIP201610P-R47ML; Current: 3.15A; Place: *); Value: 0.47uH; Tolerance: 20%; DC Resistance: 0.026R; Check: False; Case: XXXX; Temperature: -55°C~125°C; ComponentLink1Description: DATASHEET; ComponentLink1URL: https://www.terraelectronica.ru/product/3409769; Datasheet: Datasheets/inductors/J(E)TE243A-0006.pdf; Last changed: 27.10.2022
footprint L0806
pins: 1, 2

## 0806-5A-0.47uH±20%_1
designator L?, comment 0.24uH±20%
Part Number: 0806-4.4A-0.24uH±20%; Manufacturer: cjiang; NameFromManufacturer: FPA201612D-R24MT0; Current: 4.4A; Place: *); Value: 0.24uH; Tolerance: 20%; DC Resistance: 0.026R; Check: False; Case: XXXX; Temperature: -55°C~125°C; ComponentLink1Description: DATASHEET; ComponentLink1URL: https://www.terraelectronica.ru/product/3409769; Datasheet: Datasheets/inductors/J(E)TE243A-0006.pdf; Last changed: 27.10.2022
footprint L0806
pins: 1, 2

## 1206-0.25W-0R-200ppm±5%
designator R?, comment 0R±5%
Part Number: 1206-0.25W-0R-200ppm±5%; NameFromManufacturer: RC1206JR-070RL; Manufacturer: Yageo; Place: *); Value: 0R; Tolerance: 5%; Check: False; Case: R1206; Temperature: -55°C~155°C; ComponentLink1Description: DATASHEET; ComponentLink1URL: https://www.yageo.com/upload/media/product/productsearch/datasheet/rchip/PYu-RC_Group_51_RoHS_L_11.pdf; Datasheet: Datasheets/resistors/PYu-RC_Group_51_RoHS_L_11.pdf; Last changed: 27.10.2022
simulation model Resistor (Model Description)
footprint R1206
pins: 1, 2

## 1206-0.25W-1M-100ppm±1%
designator R?, comment 1M±1%
Chip Resistor 1206 1MΩ ±1% 200V ±100ppm/℃ Thick Film; Part Number: 1206-0.25W-1M-100ppm±1%; NameFromManufacturer: RC1206FR-071ML; Manufacturer: Yageo; Place: *); Value: 1M; Check: False; Case: R1206; Tolerance: 1%; Temperature: -55°C~155°C; ComponentLink1Description: DATASHEET; ComponentLink1URL: https://www.lcsc.com/product-detail/Chip-Resistor-Surface-Mount_YAGEO-RC1206FR-071ML_C108083.html?s_z=n_RC1206FR-071ML; Last changed: 09.04.2025
simulation model Resistor (Model Description)
footprint R1206
pins: 1, 2

## 1206-0.25W-1M-100ppm±1%_1
designator R?, comment 3M±1%
Chip Resistor 1206 3MΩ ±1% 200V ±100ppm/℃ Thick Film; Part Number: 1206-0.25W-3M-100ppm±1%; NameFromManufacturer: NQ06W4F3004T5E; Manufacturer: UNI-ROYAL; Place: *); Value: 3M; Check: False; Case: R1206; Tolerance: 1%; Temperature: -55°C~155°C; ComponentLink1Description: DATASHEET; ComponentLink1URL: https://www.lcsc.com/product-detail/Chip-Resistor-Surface-Mount_YAGEO-RC1206FR-071ML_C108083.html?s_z=n_RC1206FR-071ML; Last changed: 09.04.2025
simulation model Resistor (Model Description)
footprint R1206
pins: 1, 2

## 1206-0.25W-2.55R-100ppm±1%
designator R?, comment 2.55R±1%
Part Number: 1206-0.25W-2.55R-100ppm±1%; NameFromManufacturer: RC1206FR-072R55L; Manufacturer: Yageo; Place: *); Value: 2.55R; Tolerance: 1%; Check: False; Case: R1206; Temperature: -55°C~155°C; ComponentLink1Description: DATASHEET; ComponentLink1URL: https://www.compel.ru/infosheet/YAG/RC1206FR-072R55L?ysclid=l8w3ov904s325141315; Datasheet: Datasheets/resistors/PYu-RC_Group_51_RoHS_L_12.pdf; Last changed: 27.10.2022
simulation model Resistor (Model Description)
footprint R1206
pins: 1, 2

## 1206-0.25W-2.55R-100ppm±1%_1
designator R?, comment 0.75R±1%
Part Number: 1206-0.25W-0.75R-100ppm±1%; NameFromManufacturer: 1206W4F750LT5E; Manufacturer: UNI-ROYAL; Place: *); Value: 0.75R; Tolerance: 1%; Check: False; Case: R1206; Temperature: -55°C~155°C; ComponentLink1Description: DATASHEET; ComponentLink1URL: https://www.compel.ru/infosheet/YAG/RC1206FR-072R55L?ysclid=l8w3ov904s325141315; Datasheet: Datasheets/resistors/PYu-RC_Group_51_RoHS_L_12.pdf; Last changed: 27.10.2022
simulation model Resistor (Model Description)
footprint R1206
pins: 1, 2

## 1206-0.25W-10K-100ppm±5%
designator R?, comment 10K±5%
Part Number: 1206-0.25W-10K-100ppm±5%; NameFromManufacturer: RC1206JR-1310KL; Manufacturer: Yageo; Place: *); Value: 10K; Tolerance: 5%; Check: False; Case: R1206; Temperature: -55°C~155°C; ComponentLink1Description: DATASHEET; ComponentLink1URL: https://www.digikey.com/en/products/detail/yageo/RC1206JR-1310KL/14286743; Datasheet: Datasheets/resistors/PYu-RC_Group_51_RoHS_L_11.pdf; Last changed: 27.10.2022
simulation model Resistor (Model Description)
footprint R1206
pins: 1, 2

## 1206-0.25W-120R-100ppm±1%
designator R?, comment 120R±1%
Part Number: 1206-0.25W-120R-100ppm±1%; NameFromManufacturer: RC1206FR-07120RL; Manufacturer: Yageo; Place: *); Value: 120R; Tolerance: 1%; Check: False; Case: R1206; Temperature: -55°C~155°C; ComponentLink1Description: DATASHEET; ComponentLink1URL: https://www.yageo.com/upload/media/product/productsearch/datasheet/rchip/PYu-RC_Group_51_RoHS_L_11.pdf; Datasheet: Datasheets/resistors/PYu-RC_Group_51_RoHS_L_11.pdf; Last changed: 27.10.2022
simulation model Resistor (Model Description)
footprint R1206
pins: 1, 2

## 1206-NP0-630V-1000pF±5%
designator C?, comment 1000pF  Voltage: 630V
Part Number: 1206-NP0-630V-1000pF±5%; Manufacturer: Yageo; NameFromManufacturer: AC1206JKNPOZBN102; Dielectric: NP0; Place: *); Tolerance: 5%; Check: False; Case: C1206; Value: 1000pF; Temperature: -55°C~125°C; ComponentLink2Description: Link to datasheet; ComponentLink1Description: DATASHEET; ComponentLink2URL: https://www.yageo.com/upload/media/product/productsearch/datasheet/mlcc/UPY-AC_NP0X7R_16V-to-630V_12.pdf; ComponentLink1URL: Datasheets/capacitors/grm1555c1h2r2ca01-01-6256770.pdf; Last changed: 27.10.2022
footprint C1206
pins: 1, 2
1 alternate drawing of the same symbol

## 1206-X5R-50V-010uF±10%
designator C?, comment 10uF  Voltage: 50V
Part Number: 1206-X5R-50V-010uF±10%; Manufacturer: Yageo; NameFromManufacturer: CC1206KKX5R9BB106; Dielectric: X5R; Place: *); Tolerance: 10%; Check: False; Case: C1206; Value: 10uF; Temperature: -55°C~85°C; ComponentLink2Description: Link to datasheet; ComponentLink1Description: DATASHEET; ComponentLink2URL: https://www.terraelectronica.ru/product/2097656; ComponentLink1URL: Datasheets/capacitors/UPY-GPHC_X5R_4V-to-50V_27.pdf; Last changed: 27.10.2022
footprint C1206
pins: 1, 2
1 alternate drawing of the same symbol

## 1206-X7R-1K-4700pF±10%
designator C?, comment 4700pF  Voltage: 2K
Part Number: 1206-X7R-2K-4700pF±10%; Manufacturer: FH; NameFromManufacturer: 1206B472K202NT; Dielectric: X7R; Place: *); Tolerance: 10%; Check: False; Case: C1206; Value: 4700pF; Temperature: -55°C~125°C; ComponentLink2Description: Link to datasheet; ComponentLink1Description: DATASHEET; ComponentLink2URL: https://www.terraelectronica.ru/product/577491; ComponentLink1URL: Datasheets/capacitors/UPY-NP0X7R_HV_500V-to-3KV_15.pdf; Last changed: 27.10.2022
footprint C1206
pins: 1, 2
1 alternate drawing of the same symbol

## 1206-X7R-2K-1000pF±10%
designator C?, comment 1nF
Ceramic Capacitor 1206 1nF ±10% 2kV X7R; Part Number: 1206-X7R-2K-1000pF±10%; Manufacturer: Yageo; NameFromManufacturer: CC1206KKX7RDBB102; Place: *); Analog: 1206B102K202; Check: False; Dielectric: X7R; Voltage: 2kV; Case: C1206; Value: 1nF; Tolerance: 10%; Temperature: -55°C~125°C; ComponentLink2Description: Link to datasheet; ComponentLink1Description: DATASHEET; ComponentLink2URL: https://www.lcsc.com/product-detail/Multilayer-Ceramic-Capacitors-MLCC-SMD-SMT_YAGEO-CC1206KKX7RDBB102_C23631.html; Last changed: 09.04.2025
footprint C1206
pins: 1, 2
1 alternate drawing of the same symbol

## 1206-X7R-100V-0.1uF±10%
designator C?, comment 0.1uF  Voltage: 100V
Part Number: 1206-X7R-100V-0.1uF±10%; Manufacturer: KEMET; NameFromManufacturer: C1206C104K1RAC7800; Dielectric: X7R; Place: *); Tolerance: 10%; Check: False; Case: C1206; Value: 0.1uF; Temperature: -55°C~125°C; ComponentLink2Description: Link to datasheet; ComponentLink1Description: DATASHEET; ComponentLink2URL: https://ru.mouser.com/ProductDetail/KEMET/C1206C104K1RAC7800?qs=iEvsikg1EVxARPY%252B1Vujbw%3D%3D; ComponentLink1URL: Datasheets/capacitors/C1206C104K1RACTU.pdf; Last changed: 27.10.2022
footprint C1206
pins: 1, 2
1 alternate drawing of the same symbol

## 1206-X7R-100V-1uF±10%
designator C?, comment 1uF  Voltage: 100V
Part Number: 1206-X7R-100V-1uF±10%; Manufacturer: CCTC; NameFromManufacturer: TCC1206X7R105K101HT; Dielectric: X7R; Place: *); Tolerance: 10%; Check: False; Case: C1206; Value: 1uF; Temperature: -55°C~125°C; ComponentLink2Description: Link to datasheet; ComponentLink1Description: DATASHEET; ComponentLink2URL: https://www.digikey.com/en/products/detail/kemet/C1206C105K1RAC7800/5119820; ComponentLink1URL: Datasheets/capacitors/C1206C105K1RACTU.pdf; Last changed: 27.10.2022
footprint C1206
pins: 1, 2
1 alternate drawing of the same symbol

## 1210-X7R-250V-0.1uF±10%
designator C?, comment 0.1uF  Voltage: 250V  Case: C1210
Part Number: 1210-X7R-250V-0.1uF±10%; Manufacturer: Yageo; NameFromManufacturer: CC1210KKX7RYBB104; Dielectric: X7R; Place: *); Tolerance: 10%; Check: False; Value: 0.1uF; Temperature: -55°C~125°C; ComponentLink2Description: Link to datasheet; ComponentLink1Description: DATASHEET; ComponentLink2URL: https://www.electronshik.ru/item/YAG/CC1210KKX7RYBB104; ComponentLink1URL: Datasheets/capacitors/UPY-GPHC_X7R_6.3V-to-250V_22.pdf#Datasheets/capacitors/UPY-GPHC_X7R_6.3V-to-250V_22.pdf#; Last changed: 15.11.2022
footprint C1210
pins: 1, 2
1 alternate drawing of the same symbol

## 1210-X7S-100V-10uF±10%
designator C?, comment 10uF  Voltage: 100V
Part Number: 1210-X7S-100V-10uF±10%; Manufacturer: Samsung Electro-Mechanics; NameFromManufacturer: CL32Y106KCVZNWE; Dielectric: X7S; Place: *); Tolerance: 10%; Check: False; Case: C1210; Value: 10uF; Temperature: -55°C~125°C; ComponentLink2Description: Link to datasheet; ComponentLink1Description: DATASHEET; ComponentLink2URL: https://www.digikey.com/en/products/detail/samsung-electro-mechanics/CL32Y106KCVZNWE/15992073; ComponentLink1URL: Datasheets/capacitors/CL32Y106KCVZNWE_Spec.pdf; Last changed: 27.10.2022
footprint C1210
pins: 1, 2
1 alternate drawing of the same symbol

## 1812-C0G-2kV-1uF±10%
designator C?, comment 1nF  Voltage: 2kV
*; Part Number: 1812-C0G-2kV-1nF±10%; Manufacturer: FH; NameFromManufacturer: 1812B102K202NT; Dielectric: C0G; Place: *); Tolerance: 5%; Check: False; Case: CASE; Value: 1nF; Temperature: -55°C~125°C; ComponentLink2Description: Link to datasheet; ComponentLink1Description: DATASHEET; ComponentLink2URL: https://octopart.com/1812ga102jat2a-avx-75165070?r=sp; ComponentLink1URL: Datasheets/capacitors/C0GNP0-Dielectric.pdf; Last changed: 27.10.2022
footprint C1812
pins: 1, 2
1 alternate drawing of the same symbol

## 2010-0.75W-0R-200ppm±5%
designator R?, comment 0R±5%
Chip Resistor 2010 0Ω ±5% 200V ±200ppm/℃ Thick Film; Part Number: 2010-0.75W-0R-200ppm±5%; NameFromManufacturer: RC2010JK-070RL; Manufacturer: Yageo; Place: *); Value: 0R; Check: False; Case: R2010; Tolerance: 5%; Temperature: -55°C~155°C; ComponentLink1Description: DATASHEET; ComponentLink1URL: https://www.lcsc.com/product-detail/Chip-Resistor-Surface-Mount_YAGEO-RC2010JK-070RL_C152156.html; Last changed: 16.07.2024
simulation model Resistor (Model Description)
footprint R2010
pins: 1, 2

## 2010-0.75W-0R-200ppm±5%_1
designator R?, comment 91R±5%
Chip Resistor 2010 0Ω ±5% 200V ±200ppm/℃ Thick Film; Part Number: 2010-0.75W-91R-200ppm±5%; NameFromManufacturer: CL2010JN91RB; Manufacturer: CHANGLONG; Place: *); Value: 91R; Check: False; Case: R2010; Tolerance: 5%; Temperature: -55°C~155°C; ComponentLink1Description: DATASHEET; ComponentLink1URL: https://www.lcsc.com/product-detail/Chip-Resistor-Surface-Mount_YAGEO-RC2010JK-070RL_C152156.html; Last changed: 16.07.2024
simulation model Resistor (Model Description)
footprint R2010
pins: 1, 2

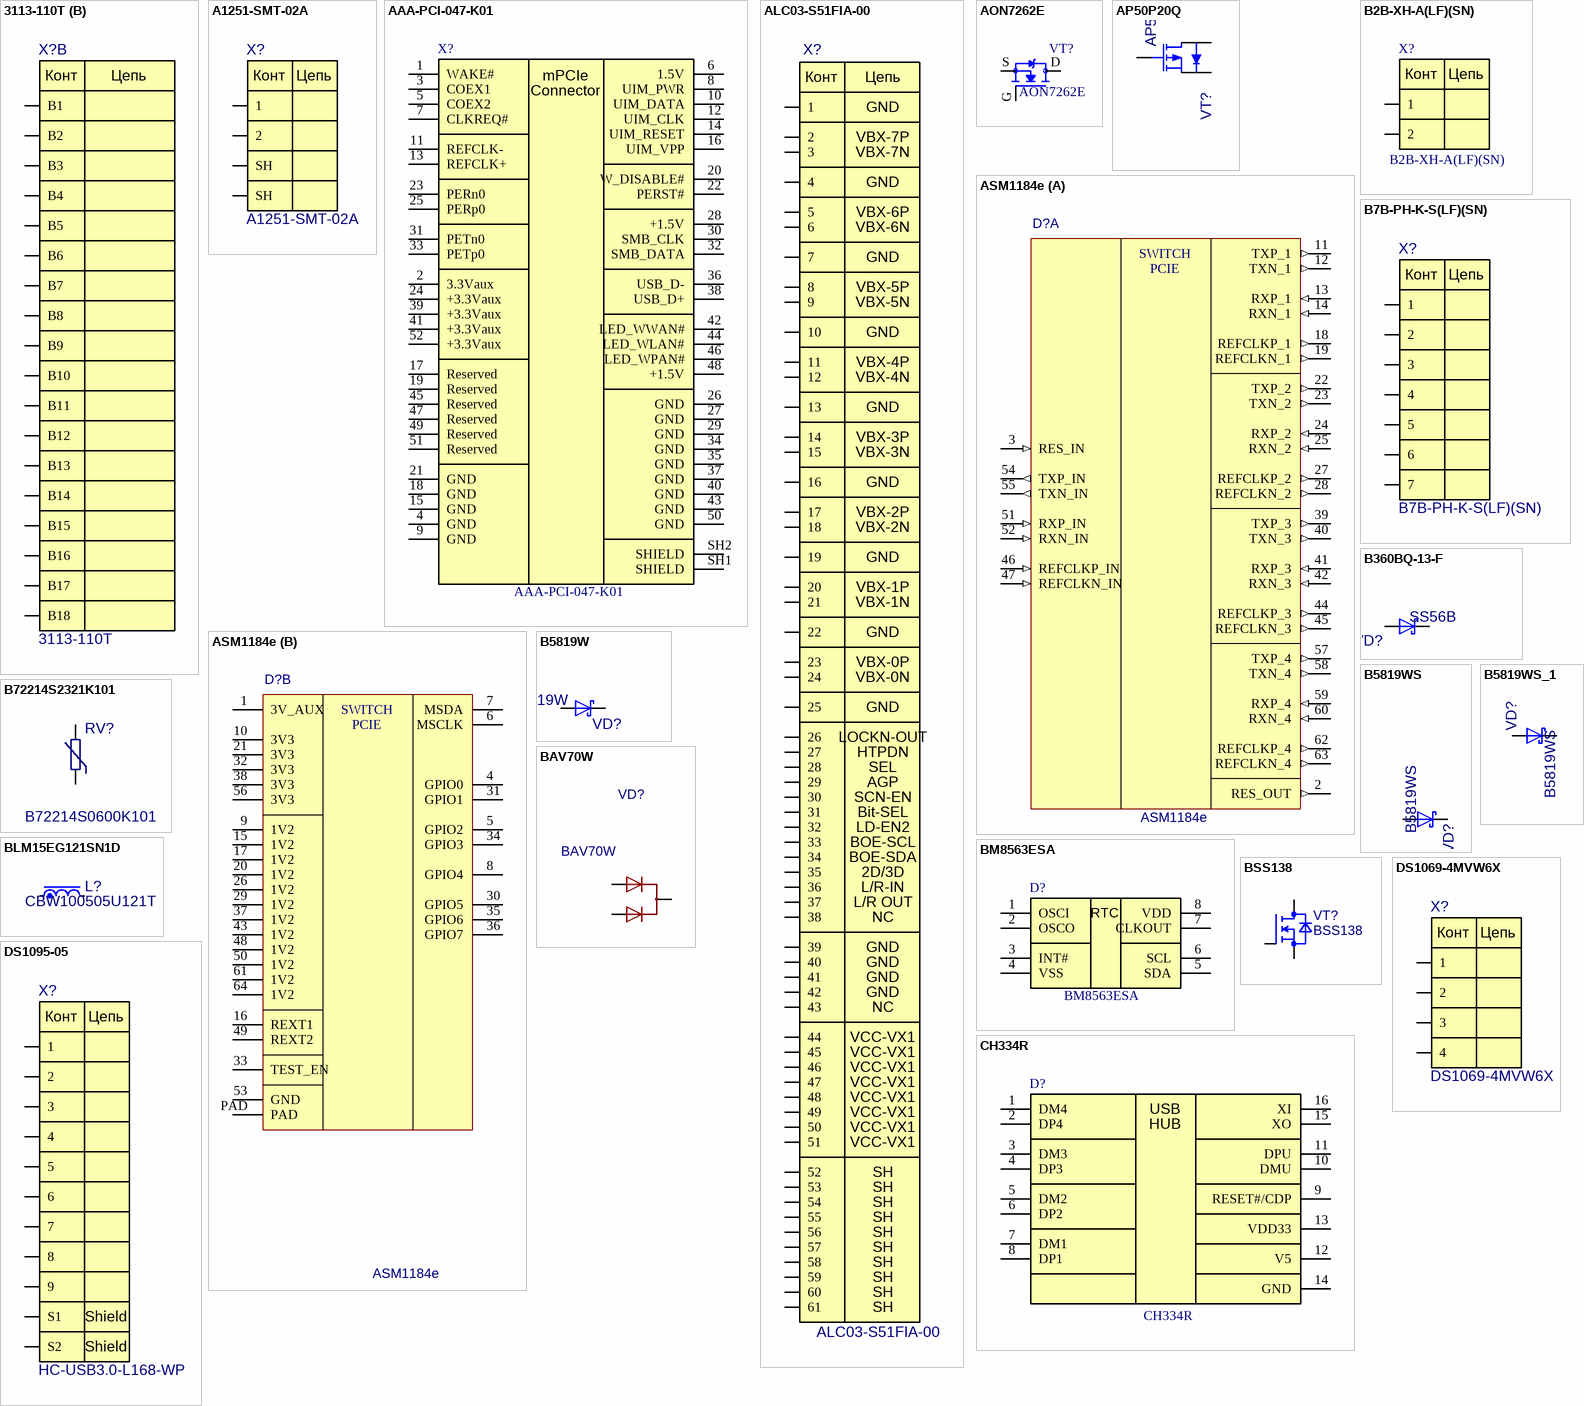
[diagram p4: symbols 3113-110T to DS1095-05]